# EAGLE library part PIC18F2550-ALLABOUTEE-PROGRAMMER-HEADERS (library AllAboutEE)
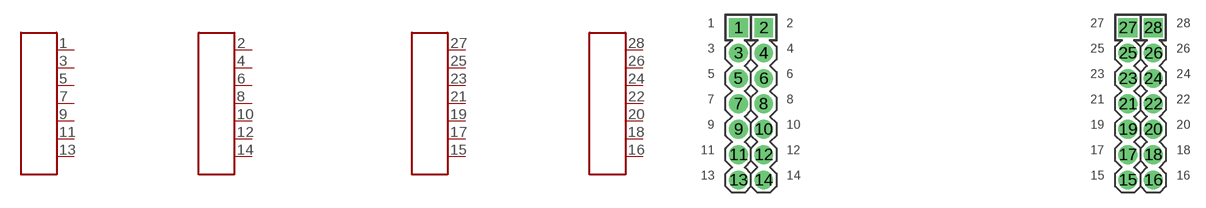
[diagram p16: symbol with the pads of PIC18F2550-ALLABOUTEE-PROGRAMMER-HEADERS; footprint PIC18F2550-ALLABOUTEE-PROGRAMMER-HEADERS]

Designator prefix -

## PIC18F2550-ALLABOUTEE-PROGRAMMER-HEADERS  [PIC18F2550-ALLABOUTEE-PROGRAMMER-HEADERS]
1  P$1
2  P$2
3  P$3
4  P$4
5  P$5
6  P$6
7  P$7
8  P$8
9  P$9
10  P$10
11  P$11
12  P$12
13  P$13
14  P$14
15  P$15
16  P$16
17  P$17
18  P$18
19  P$19
20  P$20
21  P$21
22  P$22
23  P$23
24  P$24
25  P$25
26  P$26
27  P$27
28  P$28

## Footprint PIC18F2550-ALLABOUTEE-PROGRAMMER-HEADERS (pad centres in mm)
drill 1.016 pad 1.88 square: 1 0,7.62; 2 2.54,7.62; 27 38.989,7.62; 28 41.529,7.62
drill 1.016 pad 1.88: 3 0,5.08; 4 2.54,5.08; 5 0,2.54; 6 2.54,2.54; 7 0,0; 8 2.54,0; 9 0,-2.54; 10 2.54,-2.54; 11 0,-5.08; 12 2.54,-5.08; 13 0,-7.62; 14 2.54,-7.62; 15 38.989,-7.62; 16 41.529,-7.62; 17 38.989,-5.08; 18 41.529,-5.08; 19 38.989,-2.54; 20 41.529,-2.54; 21 38.989,0; 22 41.529,0; 23 38.989,2.54; 24 41.529,2.54; 25 38.989,5.08; 26 41.529,5.08